# Altium footprint library WCH沁恒.pcblib: 132 footprints (part 4 of 9)
Each footprint in its own frame and in the unit in brackets; x right, y up, seen from the top. Pads: shape width x height; smd on the part's side, far side on the other; paste and mask are expansions set on the pad; w line width, h text height; cw(c..) or ccw(c..) is an arc to the next point about the centre after c.
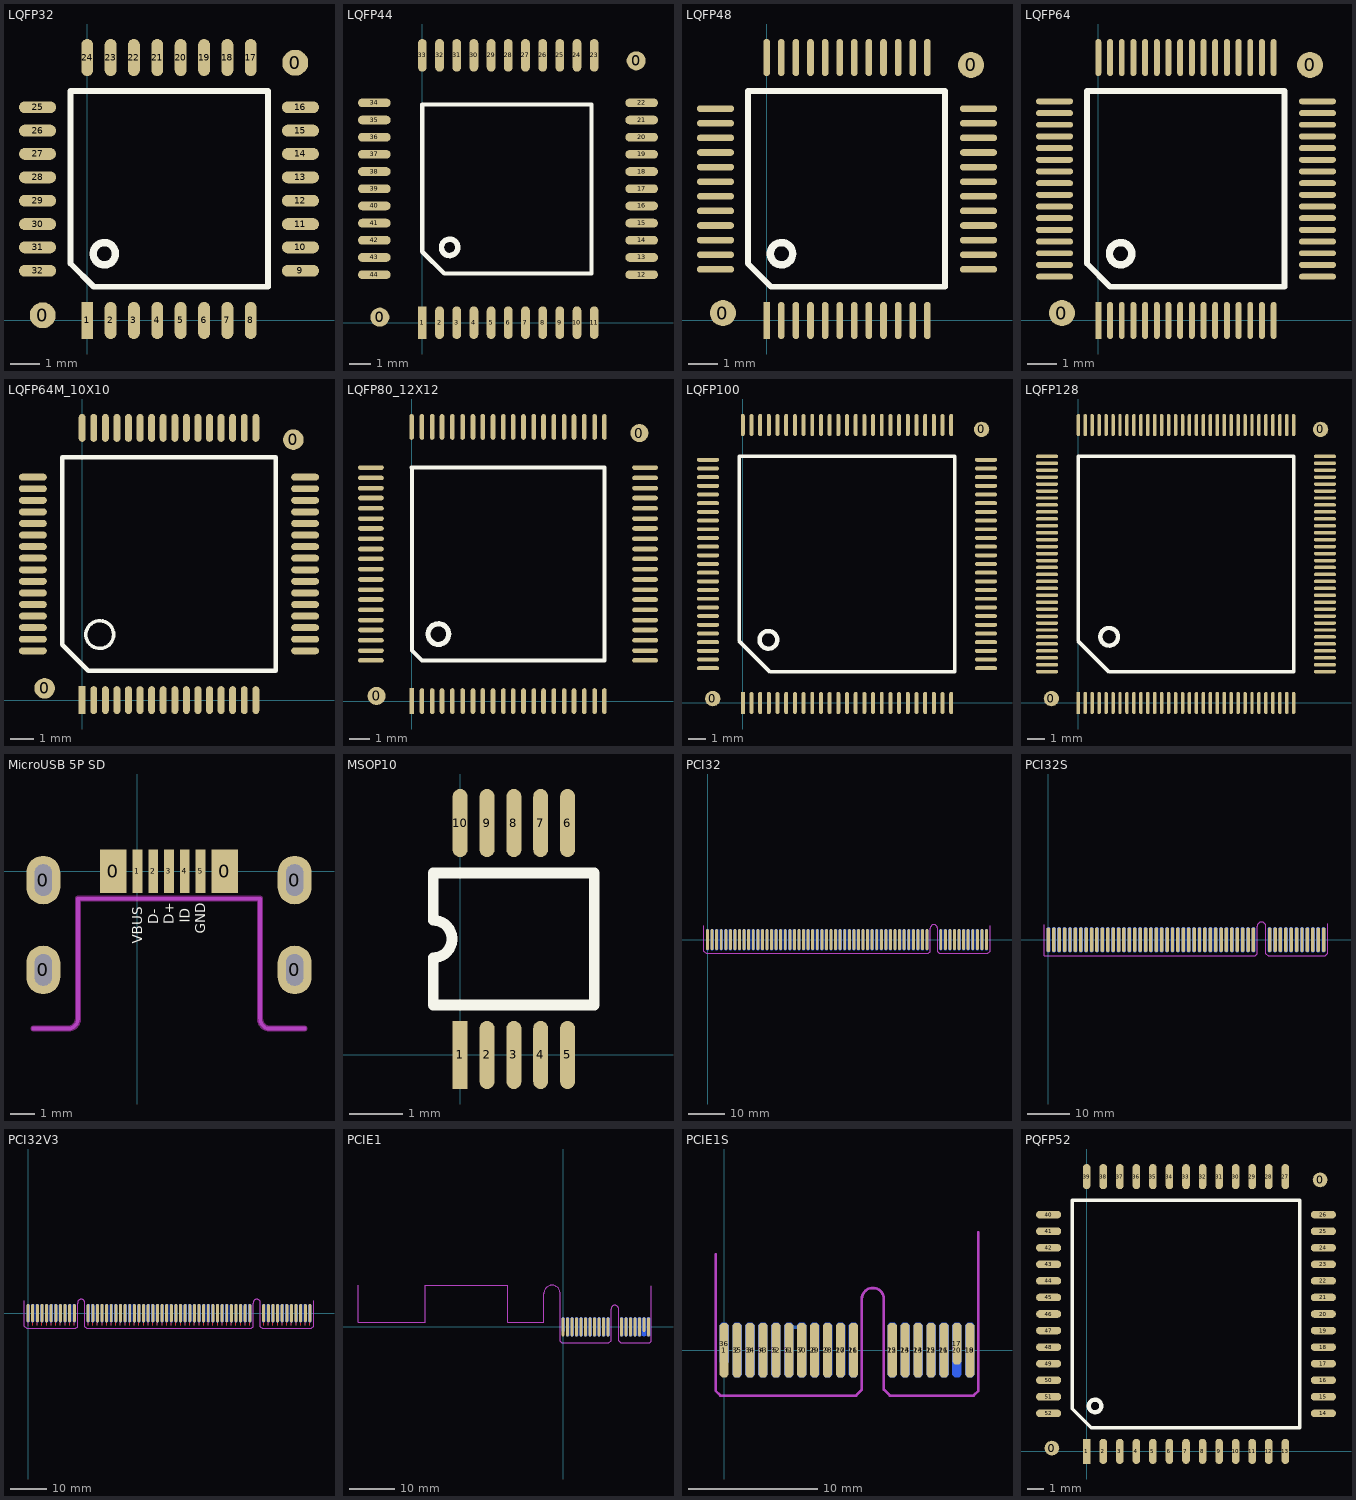
[diagram p3: the footprints below, top view; thin cyan lines are the x and y axes]

## LQFP32 [mil]
pads (34):
  round 35 smd: 0(-60,7) 0(280.47,347.47)
  rect 16x50 smd: 1(0,0)
  oval 16x50 smd: 2(31.5,0) 3(62.99,0) 4(94.49,0) 5(125.98,0) 6(157.48,0) 7(188.98,0) 8(220.47,0) 17(220.47,354.5) 18(188.98,354.5) 19(157.48,354.5) 20(125.98,354.5) 21(94.49,354.5) 22(62.99,354.5) 23(31.5,354.5) 24(0,354.5)
  oval 50x16 smd: 9(287.5,67) 10(287.5,98.5) 11(287.5,129.99) 12(287.5,161.49) 13(287.5,192.98) 14(287.5,224.48) 15(287.5,255.98) 16(287.5,287.47) 25(-67,287.47) 26(-67,255.98) 27(-67,224.48) 28(-67,192.98) 29(-67,161.49) 30(-67,129.99) 31(-67,98.5) 32(-67,67)
TopOverlay:
  circle w10: c23,90 r15
  lines w7.87: -22.42,76.66 8.83,45.42
  lines w8: -22.42,76.66 -22.42,309.42 243.58,309.42 243.58,45.42 8.83,45.42

## LQFP44 [mil]
pads (46):
  round 35 smd: 0(-78,10) 0(392,480)
  rect 16x60 smd: 1(0,0)
  oval 16x60 smd: 2(31.5,0) 3(63,0) 4(94.49,0) 5(126,0) 6(157.48,0) 7(188.98,0) 8(220.47,0) 9(251.97,0) 10(283.46,0) 11(314.96,0) 23(314.96,490) 24(283.46,490) 25(251.97,490) 26(220.47,490) 27(188.98,490) 28(157.48,490) 29(126,490) 30(94.49,490) 31(63,490) 32(31.5,490) 33(0,490)
  oval 60x16 smd: 12(402,88) 13(402,119.49) 14(402,151) 15(402,182.48) 16(402,214) 17(402,245.47) 18(402,276.97) 19(402,308.46) 20(402,339.96) 21(402,371.46) 22(402,402.95) 34(-88,402.95) 35(-88,371.46) 36(-88,339.96) 37(-88,308.46) 38(-88,276.97) 39(-88,245.47) 40(-88,214) 41(-88,182.48) 42(-88,151) 43(-88,119.49) 44(-88,88)
TopOverlay:
  circle w10: c50,138 r15
  lines w8: 0,130 0,400 310,400 310,90 40,90 0,130

## LQFP48 [mm]
pads (50):
  round 0.889 smd: 0(-1.496,0.254) 0(6.996,8.746)
  rect 0.229x1.27 smd: 1(0,0)
  oval 0.229x1.27 smd: 2(0.5,0) 3(1,0) 4(1.5,0) 5(2,0) 6(2.5,0) 7(3,0) 8(3.5,0) 9(4,0) 10(4.5,0) 11(5,0) 12(5.5,0) 25(5.5,9) 26(5,9) 27(4.5,9) 28(4,9) 29(3.5,9) 30(3,9) 31(2.5,9) 32(2,9) 33(1.5,9) 34(1,9) 35(0.5,9) 36(0,9)
  oval 1.27x0.229 smd: 13(7.25,1.75) 14(7.25,2.25) 15(7.25,2.75) 16(7.25,3.25) 17(7.25,3.75) 18(7.25,4.25) 19(7.25,4.75) 20(7.25,5.25) 21(7.25,5.75) 22(7.25,6.25) 23(7.25,6.75) 24(7.25,7.25) 37(-1.75,7.25) 38(-1.75,6.75) 39(-1.75,6.25) 40(-1.75,5.75) 41(-1.75,5.25) 42(-1.75,4.75) 43(-1.75,4.25) 44(-1.75,3.75) 45(-1.75,3.25) 46(-1.75,2.75) 47(-1.75,2.25) 48(-1.75,1.75)
TopOverlay:
  circle w0.254: c0.508,2.286 r0.381
  lines w0.2: -0.646,1.947 0.148,1.154
  lines w0.203: -0.646,1.947 -0.646,7.859 6.111,7.859 6.111,1.154 0.148,1.154

## LQFP64 [mm]
pads (66):
  round 0.889 smd: 0(-1.246,0.254) 0(7.246,8.746)
  rect 0.203x1.27 smd: 1(0,0)
  oval 0.203x1.27 smd: 2(0.4,0) 3(0.8,0) 4(1.2,0) 5(1.6,0) 6(2,0) 7(2.4,0) 8(2.8,0) 9(3.2,0) 10(3.6,0) 11(4,0) 12(4.4,0) 13(4.8,0) 14(5.2,0) 15(5.6,0) 16(6,0) 33(6,9) 34(5.6,9) 35(5.2,9) 36(4.8,9) 37(4.4,9) 38(4,9) 39(3.6,9) 40(3.2,9) 41(2.8,9) 42(2.4,9) 43(2,9) 44(1.6,9) 45(1.2,9) 46(0.8,9) 47(0.4,9) 48(0,9)
  oval 1.27x0.203 smd: 17(7.5,1.5) 18(7.5,1.9) 19(7.5,2.3) 20(7.5,2.7) 21(7.5,3.1) 22(7.5,3.5) 23(7.5,3.9) 24(7.5,4.3) 25(7.5,4.7) 26(7.5,5.1) 27(7.5,5.5) 28(7.5,5.9) 29(7.5,6.3) 30(7.5,6.7) 31(7.5,7.1) 32(7.5,7.5) 49(-1.5,7.5) 50(-1.5,7.1) 51(-1.5,6.7) 52(-1.5,6.3) 53(-1.5,5.9) 54(-1.5,5.5) 55(-1.5,5.1) 56(-1.5,4.7) 57(-1.5,4.3) 58(-1.5,3.9) 59(-1.5,3.5) 60(-1.5,3.1) 61(-1.5,2.7) 62(-1.5,2.3) 63(-1.5,1.9) 64(-1.5,1.5)
TopOverlay:
  circle w0.254: c0.762,2.286 r0.381
  lines w0.2: -0.392,1.947 0.402,1.154
  lines w0.203: -0.392,1.947 -0.392,7.859 6.365,7.859 6.365,1.154 0.402,1.154

## LQFP64M_10X10 [mm]
pads (66):
  round 0.889 smd: 0(-1.619,0.508) 0(9.119,11.246)
  rect 0.3x1.2 smd: 1(0,0)
  oval 0.3x1.2 smd: 2(0.5,0) 3(1,0) 4(1.5,0) 5(2,0) 6(2.5,0) 7(3,0) 8(3.5,0) 9(4,0) 10(4.5,0) 11(5,0) 12(5.5,0) 13(6,0) 14(6.5,0) 15(7,0) 16(7.5,0) 33(7.5,11.754) 34(7,11.754) 35(6.5,11.754) 36(6,11.754) 37(5.5,11.754) 38(5,11.754) 39(4.5,11.754) 40(4,11.754) 41(3.5,11.754) 42(3,11.754) 43(2.5,11.754) 44(2,11.754) 45(1.5,11.754) 46(1,11.754) 47(0.5,11.754) 48(0,11.754)
  oval 1.2x0.3 smd: 17(9.627,2.127) 18(9.627,2.627) 19(9.627,3.127) 20(9.627,3.627) 21(9.627,4.127) 22(9.627,4.627) 23(9.627,5.127) 24(9.627,5.627) 25(9.627,6.127) 26(9.627,6.627) 27(9.627,7.127) 28(9.627,7.627) 29(9.627,8.127) 30(9.627,8.627) 31(9.627,9.127) 32(9.627,9.627) 49(-2.127,9.627) 50(-2.127,9.127) 51(-2.127,8.627) 52(-2.127,8.127) 53(-2.127,7.627) 54(-2.127,7.127) 55(-2.127,6.627) 56(-2.127,6.127) 57(-2.127,5.627) 58(-2.127,5.127) 59(-2.127,4.627) 60(-2.127,4.127) 61(-2.127,3.627) 62(-2.127,3.127) 63(-2.127,2.627) 64(-2.127,2.127)
TopOverlay:
  circle w0.152: c0.762,2.829 r0.6
  lines w0.2: -0.865,2.397 -0.865,10.492 8.365,10.492 8.365,1.262 0.27,1.262 -0.865,2.397

## LQFP80_12X12 [mil]
pads (82):
  round 35 smd: 0(-68,10) 0(442,520)
  rect 9x50 smd: 1(0,0)
  oval 9x50 smd: 2(20,0) 3(40,0) 4(59,0) 5(79,0) 6(99,0) 7(119,0) 8(138,0) 9(158,0) 10(178,0) 11(197,0) 12(217,0) 13(237,0) 14(256,0) 15(276,0) 16(296,0) 17(315,0) 18(335,0) 19(355,0) 20(374,0) 41(374,532) 42(355,532) 43(335,532) 44(315,532) 45(296,532) 46(276,532) 47(256,532) 48(237,532) 49(217,532) 50(197,532) 51(178,532) 52(158,532) 53(138,532) 54(119,532) 55(99,532) 56(79,532) 57(59,532) 58(40,532) 59(20,532) 60(0,532)
  oval 50x9 smd: 21(453,79) 22(453,98) 23(453,118) 24(453,138) 25(453,157) 26(453,177) 27(453,197) 28(453,216) 29(453,236) 30(453,256) 31(453,276) 32(453,295) 33(453,315) 34(453,335) 35(453,354) 36(453,374) 37(453,394) 38(453,413) 39(453,433) 40(453,453) 61(-79,453) 62(-79,433) 63(-79,413) 64(-79,394) 65(-79,374) 66(-79,354) 67(-79,335) 68(-79,315) 69(-79,295) 70(-79,276) 71(-79,256) 72(-79,236) 73(-79,216) 74(-79,197) 75(-79,177) 76(-79,157) 77(-79,138) 78(-79,118) 79(-79,98) 80(-79,79)
TopOverlay:
  circle w10: c52,130 r20
  lines w8: 0,453 374,453 374,79 20,79 1,98 1,453

## LQFP100 [mil]
pads (102):
  round 35 smd: 0(-68,10) 0(541.18,620)
  rect 9x50 smd: 1(0,0)
  oval 9x50 smd: 2(19.68,0) 3(39.37,0) 4(59.05,0) 5(78.74,0) 6(98.42,0) 7(118.11,0) 8(137.79,0) 9(157.48,0) 10(177.16,0) 11(196.85,0) 12(216.53,0) 13(236.22,0) 14(255.91,0) 15(275.59,0) 16(295.27,0) 17(314.96,0) 18(334.64,0) 19(354.33,0) 20(374.01,0) 21(393.7,0) 22(413.38,0) 23(433.07,0) 24(452.75,0) 25(472.44,0) 51(472.44,629.92) 52(452.75,629.92) 53(433.07,629.92) 54(413.38,629.92) 55(393.7,629.92) 56(374.01,629.92) 57(354.33,629.92) 58(334.64,629.92) 59(314.96,629.92) 60(295.27,629.92) 61(275.59,629.92) 62(255.91,629.92) 63(236.22,629.92) 64(216.53,629.92) 65(196.85,629.92) 66(177.16,629.92) 67(157.48,629.92) 68(137.79,629.92) 69(118.11,629.92) 70(98.42,629.92) 71(78.74,629.92) 72(59.05,629.92) 73(39.37,629.92) 74(19.68,629.92) 75(0,629.92)
  oval 50x9 smd: 26(551.18,78.74) 27(551.18,98.43) 28(551.18,118.11) 29(551.18,137.8) 30(551.18,157.48) 31(551.18,177.17) 32(551.18,196.85) 33(551.18,216.54) 34(551.18,236.22) 35(551.18,255.91) 36(551.18,275.59) 37(551.18,295.28) 38(551.18,314.96) 39(551.18,334.65) 40(551.18,354.33) 41(551.18,374.02) 42(551.18,393.7) 43(551.18,413.39) 44(551.18,433.07) 45(551.18,452.76) 46(551.18,472.44) 47(551.18,492.13) 48(551.18,511.81) 49(551.18,531.5) 50(551.18,551.18) 76(-78.74,551.18) 77(-78.74,531.5) 78(-78.74,511.81) 79(-78.74,492.13) 80(-78.74,472.44) 81(-78.74,452.76) 82(-78.74,433.07) 83(-78.74,413.39) 84(-78.74,393.7) 85(-78.74,374.02) 86(-78.74,354.33) 87(-78.74,334.65) 88(-78.74,314.96) 89(-78.74,295.28) 90(-78.74,275.59) 91(-78.74,255.91) 92(-78.74,236.22) 93(-78.74,216.54) 94(-78.74,196.85) 95(-78.74,177.17) 96(-78.74,157.48) 97(-78.74,137.8) 98(-78.74,118.11) 99(-78.74,98.43) 100(-78.74,78.74)
TopOverlay:
  circle w10: c58,143 r20
  lines w7.87: -8.46,140.55 61.81,70.28 480.9,70.28 480.9,559.64 -8.46,559.64 -8.46,140.55

## LQFP128 [mm]
pads (130):
  round 0.889 smd: 0(-1.546,0.254) 0(13.946,15.746)
  rect 0.2x1.27 smd: 1(0,0)
  oval 0.2x1.27 smd: 2(0.4,0) 3(0.8,0) 4(1.2,0) 5(1.6,0) 6(2,0) 7(2.4,0) 8(2.8,0) 9(3.2,0) 10(3.6,0) 11(4,0) 12(4.4,0) 13(4.8,0) 14(5.2,0) 15(5.6,0) 16(6,0) 17(6.4,0) 18(6.8,0) 19(7.2,0) 20(7.6,0) 21(8,0) 22(8.4,0) 23(8.8,0) 24(9.2,0) 25(9.6,0) 26(10,0) 27(10.4,0) 28(10.8,0) 29(11.2,0) 30(11.6,0) 31(12,0) 32(12.4,0) 65(12.4,16) 66(12,16) 67(11.6,16) 68(11.2,16) 69(10.8,16) 70(10.4,16) 71(10,16) 72(9.6,16) 73(9.2,16) 74(8.8,16) 75(8.4,16) 76(8,16) 77(7.6,16) 78(7.2,16) 79(6.8,16) 80(6.4,16) 81(6,16) 82(5.6,16) 83(5.2,16) 84(4.8,16) 85(4.4,16) 86(4,16) 87(3.6,16) 88(3.2,16) 89(2.8,16) 90(2.4,16) 91(2,16) 92(1.6,16) 93(1.2,16) 94(0.8,16) 95(0.4,16) 96(0,16)
  oval 1.27x0.2 smd: 33(14.2,1.8) 34(14.2,2.2) 35(14.2,2.6) 36(14.2,3) 37(14.2,3.4) 38(14.2,3.8) 39(14.2,4.2) 40(14.2,4.6) 41(14.2,5) 42(14.2,5.4) 43(14.2,5.8) 44(14.2,6.2) 45(14.2,6.6) 46(14.2,7) 47(14.2,7.4) 48(14.2,7.8) 49(14.2,8.2) 50(14.2,8.6) 51(14.2,9) 52(14.2,9.4) 53(14.2,9.8) 54(14.2,10.2) 55(14.2,10.6) 56(14.2,11) 57(14.2,11.4) 58(14.2,11.8) 59(14.2,12.2) 60(14.2,12.6) 61(14.2,13) 62(14.2,13.4) 63(14.2,13.8) 64(14.2,14.2) 97(-1.8,14.2) 98(-1.8,13.8) 99(-1.8,13.4) 100(-1.8,13) 101(-1.8,12.6) 102(-1.8,12.2) 103(-1.8,11.8) 104(-1.8,11.4) 105(-1.8,11) 106(-1.8,10.6) 107(-1.8,10.2) 108(-1.8,9.8) 109(-1.8,9.4) 110(-1.8,9) 111(-1.8,8.6) 112(-1.8,8.2) 113(-1.8,7.8) 114(-1.8,7.4) 115(-1.8,7) 116(-1.8,6.6) 117(-1.8,6.2) 118(-1.8,5.8) 119(-1.8,5.4) 120(-1.8,5) 121(-1.8,4.6) 122(-1.8,4.2) 123(-1.8,3.8) 124(-1.8,3.4) 125(-1.8,3) 126(-1.8,2.6) 127(-1.8,2.2) 128(-1.8,1.8)
TopOverlay:
  circle w0.254: c1.778,3.81 r0.508
  lines w0.2: -0.015,3.57 1.77,1.785 12.415,1.785 12.415,14.215 -0.015,14.215 -0.015,3.57

## MicroUSB 5P SD [mm]
pads (11):
  oval 1.4x2 hole 0.7 slot 1.3 at 90 deg: 0(-3.875,-4.062) 0(-3.875,-0.362) 0(6.475,-4.062) 0(6.475,-0.362)
  rect 1.1x1.8 smd: 0(-1,0) 0(3.6,0)
  rect 0.4x1.8 smd: 1(0,0) 2(0.65,0) 3(1.3,0) 4(1.95,0) 5(2.6,0)
TopOverlay:
  text "VBUS" at 0.2,-2.977 h0.4
  text "D-" at 0.85,-2.177 h0.4
  text "D+" at 1.5,-2.177 h0.4
  text "ID" at 2.15,-2.11 h0.4
  text "GND" at 2.8,-2.577 h0.4
KeepOutLayer:
  lines w0.254: -4.277,-6.476 -2.85,-6.476 ccw(c-2.85,-6.076) -2.45,-6.076 -2.45,-1.126 5.05,-1.126 5.05,-6.076 ccw(c5.45,-6.076) 5.45,-6.476 6.877,-6.476
Mechanical1:
  lines w0.152: -4.277,-6.476 -2.85,-6.476 ccw(c-2.85,-6.076) -2.45,-6.076 -2.45,-1.126 5.05,-1.126 ; 6.877,-6.476 5.45,-6.476 cw(c5.45,-6.076) 5.05,-6.076 5.05,-1.126 ; 5.05,-1.126 5.05,-1.126
3D body "476420001.stp": height 1.78, standoff -1.2, extent -3.8,-6.597 6.4,0.633

## MSOP10 [mil]
pads (10):
  rect 11x50 smd: 1(0,0)
  oval 11x50 smd: 2(19.68,0) 3(39.37,0) 4(59.06,0) 5(78.74,0) 6(78.74,170) 7(59.06,170) 8(39.37,170) 9(19.68,170) 10(0,170)
TopOverlay:
  lines w7.87: -19.8,36.65 -19.8,71.22 ccw(c-19.8,85) -19.8,98.78 -19.8,133.35 98.32,133.35 98.32,36.65 -19.8,36.65

## PCI32 [mil]
pads (120):
  oct 32x230 smd: 1(0,0) 2(50,0) 3(100,0) 4(150,0) 5(200,0) 6(250,0) 7(300,0) 8(350,0) 9(400,0) 10(450,0) 11(500,0) 12(550,0) 13(600,0) 14(650,0) 15(700,0) 16(750,0) 17(800,0) 18(850,0) 19(900,0) 20(950,0) 21(1000,0) 22(1050,0) 23(1100,0) 24(1150,0) 25(1200,0) 26(1250,0) 27(1300,0) 28(1350,0) 29(1400,0) 30(1450,0) 31(1500,0) 32(1550,0) 33(1600,0) 34(1650,0) 35(1700,0) 36(1750,0) 37(1800,0) 38(1850,0) 39(1900,0) 40(1950,0) 41(2000,0) 42(2050,0) 43(2100,0) 44(2150,0) 45(2200,0) 46(2250,0) 47(2300,0) 48(2350,0) 49(2400,0) 52(2550,0) 53(2600,0) 54(2650,0) 55(2700,0) 56(2750,0) 57(2800,0) 58(2850,0) 59(2900,0) 60(2950,0) 61(3000,0) 62(3050,0)
  oct 32x230 smd far side: 63(3050,0) 64(3000,0) 65(2950,0) 66(2900,0) 67(2850,0) 68(2800,0) 69(2750,0) 70(2700,0) 71(2650,0) 72(2600,0) 73(2550,0) 76(2400,0) 77(2350,0) 78(2300,0) 79(2250,0) 80(2200,0) 81(2150,0) 82(2100,0) 83(2050,0) 84(2000,0) 85(1950,0) 86(1900,0) 87(1850,0) 88(1800,0) 89(1750,0) 90(1700,0) 91(1650,0) 92(1600,0) 93(1550,0) 94(1500,0) 95(1450,0) 96(1400,0) 97(1350,0) 98(1300,0) 99(1250,0) 100(1200,0) 101(1150,0) 102(1100,0) 103(1050,0) 104(1000,0) 105(950,0) 106(900,0) 107(850,0) 108(800,0) 109(750,0) 110(700,0) 111(650,0) 112(600,0) 113(550,0) 114(500,0) 115(450,0) 116(400,0) 117(350,0) 118(300,0) 119(250,0) 120(200,0) 121(150,0) 122(100,0) 123(50,0) 124(0,0)
TopSolder:
  rectangle: 2515,-150 3090,120
  rectangle: -40,-150 2435,120
BottomSolder:
  rectangle: -40,-150 2435,120
  rectangle: 2515,-150 3090,120
KeepOutLayer:
  lines w10: -40,150 -40,-125 -15,-150 2415,-150 2435,-130 2435,125 cw(c2475,125) 2515,125 2515,-130 2535,-150 3065,-150 3090,-125 3090,150
Mechanical1:
  lines w10: -40,150 -40,-125 -15,-150 2415,-150 2435,-130 2435,125 cw(c2475,125) 2515,125 2515,-130 2535,-150 3065,-150 3090,-125 3090,150

## PCI32S [mil]
pads (100):
  oct 32x230 smd: 11(0,0) 12(50,0) 13(100,0) 14(150,0) 15(200,0) 16(250,0) 17(300,0) 18(350,0) 19(400,0) 20(450,0) 21(500,0) 22(550,0) 23(600,0) 24(650,0) 25(700,0) 26(750,0) 27(800,0) 28(850,0) 29(900,0) 30(950,0) 31(1000,0) 32(1050,0) 33(1100,0) 34(1150,0) 35(1200,0) 36(1250,0) 37(1300,0) 38(1350,0) 39(1400,0) 40(1450,0) 41(1500,0) 42(1550,0) 43(1600,0) 44(1650,0) 45(1700,0) 46(1750,0) 47(1800,0) 48(1850,0) 49(1900,0) 52(2050,0) 53(2100,0) 54(2150,0) 55(2200,0) 56(2250,0) 57(2300,0) 58(2350,0) 59(2400,0) 60(2450,0) 61(2500,0) 62(2550,0)
  oct 32x230 smd far side: 63(2550,0) 64(2500,0) 65(2450,0) 66(2400,0) 67(2350,0) 68(2300,0) 69(2250,0) 70(2200,0) 71(2150,0) 72(2100,0) 73(2050,0) 76(1900,0) 77(1850,0) 78(1800,0) 79(1750,0) 80(1700,0) 81(1650,0) 82(1600,0) 83(1550,0) 84(1500,0) 85(1450,0) 86(1400,0) 87(1350,0) 88(1300,0) 89(1250,0) 90(1200,0) 91(1150,0) 92(1100,0) 93(1050,0) 94(1000,0) 95(950,0) 96(900,0) 97(850,0) 98(800,0) 99(750,0) 100(700,0) 101(650,0) 102(600,0) 103(550,0) 104(500,0) 105(450,0) 106(400,0) 107(350,0) 108(300,0) 109(250,0) 110(200,0) 111(150,0) 112(100,0) 113(50,0) 114(0,0)
TopSolder:
  rectangle: -40,-150 1935,120
  rectangle: 2015,-150 2590,120
BottomSolder:
  rectangle: 2015,-150 2590,120
  rectangle: -40,-150 1935,120
KeepOutLayer:
  lines w10: -40,140 -40,-150 1915,-150 1935,-130 1935,125 cw(c1975,125) 2015,125 2015,-130 2035,-150 2565,-150 2590,-125 2590,150
Mechanical1:
  lines w10: -40,140 -40,-150 1915,-150 1935,-130 1935,125 cw(c1975,125) 2015,125 2015,-130 2035,-150 2565,-150 2590,-125 2590,150

## PCI32V3 [mil]
pads (116):
  oval 32x196.85 smd: 1(0,0) 2(50,0) 3(100,0) 4(150,0) 5(200,0) 6(250,0) 7(300,0) 8(350,0) 9(400,0) 10(450,0) 11(500,0) 14(650,0) 15(700,0) 16(750,0) 17(800,0) 18(850,0) 19(900,0) 20(950,0) 21(1000,0) 22(1050,0) 23(1100,0) 24(1150,0) 25(1200,0) 26(1250,0) 27(1300,0) 28(1350,0) 29(1400,0) 30(1450,0) 31(1500,0) 32(1550,0) 33(1600,0) 34(1650,0) 35(1700,0) 36(1750,0) 37(1800,0) 38(1850,0) 39(1900,0) 40(1950,0) 41(2000,0) 42(2050,0) 43(2100,0) 44(2150,0) 45(2200,0) 46(2250,0) 47(2300,0) 48(2350,0) 49(2400,0) 52(2550,0) 53(2600,0) 54(2650,0) 55(2700,0) 56(2750,0) 57(2800,0) 58(2850,0) 59(2900,0) 60(2950,0) 61(3000,0) 62(3050,0)
  oval 32x196.85 smd far side: 63(3050,0) 64(3000,0) 65(2950,0) 66(2900,0) 67(2850,0) 68(2800,0) 69(2750,0) 70(2700,0) 71(2650,0) 72(2600,0) 73(2550,0) 76(2400,0) 77(2350,0) 78(2300,0) 79(2250,0) 80(2200,0) 81(2150,0) 82(2100,0) 83(2050,0) 84(2000,0) 85(1950,0) 86(1900,0) 87(1850,0) 88(1800,0) 89(1750,0) 90(1700,0) 91(1650,0) 92(1600,0) 93(1550,0) 94(1500,0) 95(1450,0) 96(1400,0) 97(1350,0) 98(1300,0) 99(1250,0) 100(1200,0) 101(1150,0) 102(1100,0) 103(1050,0) 104(1000,0) 105(950,0) 106(900,0) 107(850,0) 108(800,0) 109(750,0) 110(700,0) 111(650,0) 114(500,0) 115(450,0) 116(400,0) 117(350,0) 118(300,0) 119(250,0) 120(200,0) 121(150,0) 122(100,0) 123(50,0) 124(0,0)
TopLayer:
  lines w12: 0,-130 0,-78.74 ; 50,-130 50,-78.74 ; 100,-130 100,-78.74 ; 150,-130 150,-78.74 ; 200,-130 200,-78.74 ; 250,-130 250,-78.74 ; 300,-130 300,-78.74 ; 350,-130 350,-78.74 ; 400,-130 400,-78.74 ; 450,-130 450,-78.74 ; 500,-130 500,-78.74 ; 650,-130 650,-78.74 ; 700,-130 700,-78.74 ; 750,-130 750,-78.74 ; 800,-130 800,-78.74 ; 850,-130 850,-78.74 ; 900,-130 900,-78.74 ; 950,-130 950,-78.74 ; 1000,-130 1000,-78.74 ; 1050,-130 1050,-78.74 ; 1100,-130 1100,-78.74 ; 1150,-130 1150,-78.74 ; 1200,-130 1200,-78.74 ; 1250,-130 1250,-78.74 ; 1300,-130 1300,-78.74 ; 1350,-130 1350,-78.74 ; 1400,-130 1400,-78.74 ; 1450,-130 1450,-78.74 ; 1500,-130 1500,-78.74 ; 1550,-130 1550,-78.74 ; 1600,-130 1600,-78.74 ; 1650,-130 1650,-78.74 ; 1700,-130 1700,-78.74 ; 1750,-130 1750,-78.74 ; 1800,-130 1800,-78.74 ; 1850,-130 1850,-78.74 ; 1900,-130 1900,-78.74 ; 1950,-130 1950,-78.74 ; 2000,-130 2000,-78.74 ; 2050,-130 2050,-78.74 ; 2100,-130 2100,-78.74 ; 2150,-130 2150,-78.74 ; 2200,-130 2200,-78.74 ; 2250,-130 2250,-78.74 ; 2300,-130 2300,-78.74 ; 2350,-130 2350,-78.74 ; 2400,-130 2400,-78.74 ; 2550,-130 2550,-78.74 ; 2600,-130 2600,-78.74 ; 2650,-130 2650,-78.74 ; 2700,-130 2700,-78.74 ; 2750,-130 2750,-78.74 ; 2800,-130 2800,-78.74 ; 2850,-130 2850,-78.74 ; 2900,-130 2900,-78.74 ; 2950,-130 2950,-78.74 ; 3000,-130 3000,-78.74 ; 3050,-130 3050,-78.74
BottomLayer:
  lines w12: 0,-130 0,-78.74 ; 50,-130 50,-78.74 ; 100,-130 100,-78.74 ; 150,-130 150,-78.74 ; 200,-130 200,-78.74 ; 250,-130 250,-78.74 ; 300,-130 300,-78.74 ; 350,-130 350,-78.74 ; 400,-130 400,-78.74 ; 450,-130 450,-78.74 ; 500,-130 500,-78.74 ; 650,-130 650,-78.74 ; 700,-130 700,-78.74 ; 750,-130 750,-78.74 ; 800,-130 800,-78.74 ; 850,-130 850,-78.74 ; 900,-130 900,-78.74 ; 950,-130 950,-78.74 ; 1000,-130 1000,-78.74 ; 1050,-130 1050,-78.74 ; 1100,-130 1100,-78.74 ; 1150,-130 1150,-78.74 ; 1200,-130 1200,-78.74 ; 1250,-130 1250,-78.74 ; 1300,-130 1300,-78.74 ; 1350,-130 1350,-78.74 ; 1400,-130 1400,-78.74 ; 1450,-130 1450,-78.74 ; 1500,-130 1500,-78.74 ; 1550,-130 1550,-78.74 ; 1600,-130 1600,-78.74 ; 1650,-130 1650,-78.74 ; 1700,-130 1700,-78.74 ; 1750,-130 1750,-78.74 ; 1800,-130 1800,-78.74 ; 1850,-130 1850,-78.74 ; 1900,-130 1900,-78.74 ; 1950,-130 1950,-78.74 ; 2000,-130 2000,-78.74 ; 2050,-130 2050,-78.74 ; 2100,-130 2100,-78.74 ; 2150,-130 2150,-78.74 ; 2200,-130 2200,-78.74 ; 2250,-130 2250,-78.74 ; 2300,-130 2300,-78.74 ; 2350,-130 2350,-78.74 ; 2400,-130 2400,-78.74 ; 2550,-130 2550,-78.74 ; 2600,-130 2600,-78.74 ; 2650,-130 2650,-78.74 ; 2700,-130 2700,-78.74 ; 2750,-130 2750,-78.74 ; 2800,-130 2800,-78.74 ; 2850,-130 2850,-78.74 ; 2900,-130 2900,-78.74 ; 2950,-130 2950,-78.74 ; 3000,-130 3000,-78.74 ; 3050,-130 3050,-78.74
TopSolder:
  rectangle: 2515,-159 3082,110
  region: 2435,110 615,110 615,-156 2435,-156
  rectangle: -40,-160 527,109
BottomSolder:
  rectangle: 615,-168 2435,110
  rectangle: 2515,-162 3081,106
  rectangle: -39,-161 527,107
KeepOutLayer:
  lines w10: -40,135 -40,-140 -15,-165 515,-165 535,-145 535,110 cw(c575,110) 615,110 615,-145 635,-165 2415,-165 2435,-145 2435,110 cw(c2475,110) 2515,110 2515,-145 2535,-165 3065,-165 3090,-140 3090,135
Mechanical1:
  lines w10: -40,135 -40,-140 -15,-165 515,-165 535,-145 535,110 cw(c575,110) 615,110 615,-145 635,-165 2415,-165 2435,-145 2435,110 cw(c2475,110) 2515,110 2515,-145 2535,-165 3065,-165 3090,-140 3090,135

## PCIE1 [mm]
pads (36):
  oct 0.7x4.2 smd: 1(0,0) 2(1,0) 3(2,0) 4(3,0) 5(4,0) 6(5,0) 7(6,0) 8(7,0) 9(8,0) 10(9,0) 11(10,0) 12(13,0) 13(14,0) 14(15,0) 15(16,0) 16(17,0) 18(19,0)
  oct 0.7x3.2 smd: 17(18,0.5)
  oct 0.7x4.2 smd far side: 19(19,0) 20(18,0) 21(17,0) 22(16,0) 23(15,0) 24(14,0) 25(13,0) 26(10,0) 27(9,0) 28(8,0) 29(7,0) 30(6,0) 31(5,0) 32(4,0) 33(3,0) 34(2,0) 35(1,0)
  oct 0.7x3.2 smd far side: 36(0,0.5)
KeepOutLayer:
  lines w0.2: -45.644,9.233 -45.644,0.983 -30.644,0.983 -30.644,9.233 -12.3,9.233 -12.3,0.983 -4.3,0.983 -4.3,7.414 cw(c-2.475,7.414) -0.65,7.414 -0.65,-3.149 -0.294,-3.504 ; -0.288,-3.517 10.194,-3.517 ; 10.194,-3.504 10.652,-3.047 10.652,3.988 ; 10.649,3.953 cw(c11.5,3.953) 12.351,3.953 ; 12.348,3.988 12.348,-3.045 12.806,-3.502 ; 12.808,-3.517 19.294,-3.517 ; 19.294,-3.504 19.65,-3.149 19.65,9.101
Mechanical1:
  lines w0.2: -45.644,9.233 -45.644,0.983 -30.644,0.983 -30.644,9.233 -12.3,9.233 -12.3,0.983 -4.3,0.983 -4.3,7.414 ; 10.649,3.953 10.649,-3.045 10.652,-3.047 10.188,-3.511 -0.288,-3.511 -0.65,-3.149 -0.65,7.414 ccw(c-2.475,7.414) -4.3,7.414 ; 10.652,3.988 cw(c11.5,3.953) 12.349,3.953 ; 12.351,3.953 12.351,-3.042 12.808,-3.499 19.277,-3.499 19.628,-3.149 19.628,9.079 ; -4.3,7.414 -4.3,7.414

## PCIE1S [mm]
pads (36):
  oct 0.7x4.2 smd: 1(0,0) 2(1,0) 3(2,0) 4(3,0) 5(4,0) 6(5,0) 7(6,0) 8(7,0) 9(8,0) 10(9,0) 11(10,0) 12(13,0) 13(14,0) 14(15,0) 15(16,0) 16(17,0) 18(19,0)
  oct 0.7x3.2 smd: 17(18,0.5)
  oct 0.7x4.2 smd far side: 19(19,0) 20(18,0) 21(17,0) 22(16,0) 23(15,0) 24(14,0) 25(13,0) 26(10,0) 27(9,0) 28(8,0) 29(7,0) 30(6,0) 31(5,0) 32(4,0) 33(3,0) 34(2,0) 35(1,0)
  oct 0.7x3.2 smd far side: 36(0,0.5)
BottomLayer:
  lines w0.254: 5.08,1.778 5.842,1.778
KeepOutLayer:
  lines w0.2: -0.65,7.414 -0.65,-3.149 -0.294,-3.504 ; -0.288,-3.517 10.194,-3.517 ; 10.194,-3.504 10.652,-3.047 10.652,3.988 ; 10.649,3.953 cw(c11.5,3.953) 12.351,3.953 ; 12.348,3.988 12.348,-3.045 12.821,-3.517 19.294,-3.517 ; 19.294,-3.504 19.65,-3.149 19.65,9.101
Mechanical1:
  lines w0.2: -0.65,7.414 -0.65,-3.149 -0.65,-3.155 -0.288,-3.517 10.194,-3.517 10.652,-3.06 10.652,3.953 cw(c11.5,3.953) 12.349,3.953 ; 12.348,-3.045 12.353,-3.045 12.826,-3.517 19.294,-3.517 19.65,-3.161 19.65,-3.149 19.65,9.101 ; 12.351,-3.042 12.351,3.953

## PQFP52 [mil]
pads (54):
  round 35 smd: 0(-82.68,7.87) 0(555.12,645.67)
  rect 18x60 smd: 1(0,0)
  oval 18x60 smd: 2(39.37,0) 3(78.74,0) 4(118.11,0) 5(157.48,0) 6(196.85,0) 7(236.22,0) 8(275.59,0) 9(314.96,0) 10(354.33,0) 11(393.7,0) 12(433.07,0) 13(472.44,0) 27(472.44,653.54) 28(433.07,653.54) 29(393.7,653.54) 30(354.33,653.54) 31(314.96,653.54) 32(275.59,653.54) 33(236.22,653.54) 34(196.85,653.54) 35(157.48,653.54) 36(118.11,653.54) 37(78.74,653.54) 38(39.37,653.54) 39(0,653.54)
  oval 60x18 smd: 14(562.99,90.55) 15(562.99,129.92) 16(562.99,169.29) 17(562.99,208.66) 18(562.99,248.03) 19(562.99,287.4) 20(562.99,326.77) 21(562.99,366.14) 22(562.99,405.51) 23(562.99,444.88) 24(562.99,484.25) 25(562.99,523.62) 26(562.99,562.99) 40(-90.55,562.99) 41(-90.55,523.62) 42(-90.55,484.25) 43(-90.55,444.88) 44(-90.55,405.51) 45(-90.55,366.14) 46(-90.55,326.77) 47(-90.55,287.4) 48(-90.55,248.03) 49(-90.55,208.66) 50(-90.55,169.29) 51(-90.55,129.92) 52(-90.55,90.55)
TopOverlay:
  circle w10: c20,108 r15
  lines w7.87: -34.06,101.18 10.63,56.5 506.5,56.5 506.5,597.05 -34.06,597.05 -34.06,101.18